# Altium schematic symbol library iv_connectors.SchLib: 193 symbols
Pins are listed as number, name and electrical type; pins without a type are passive.

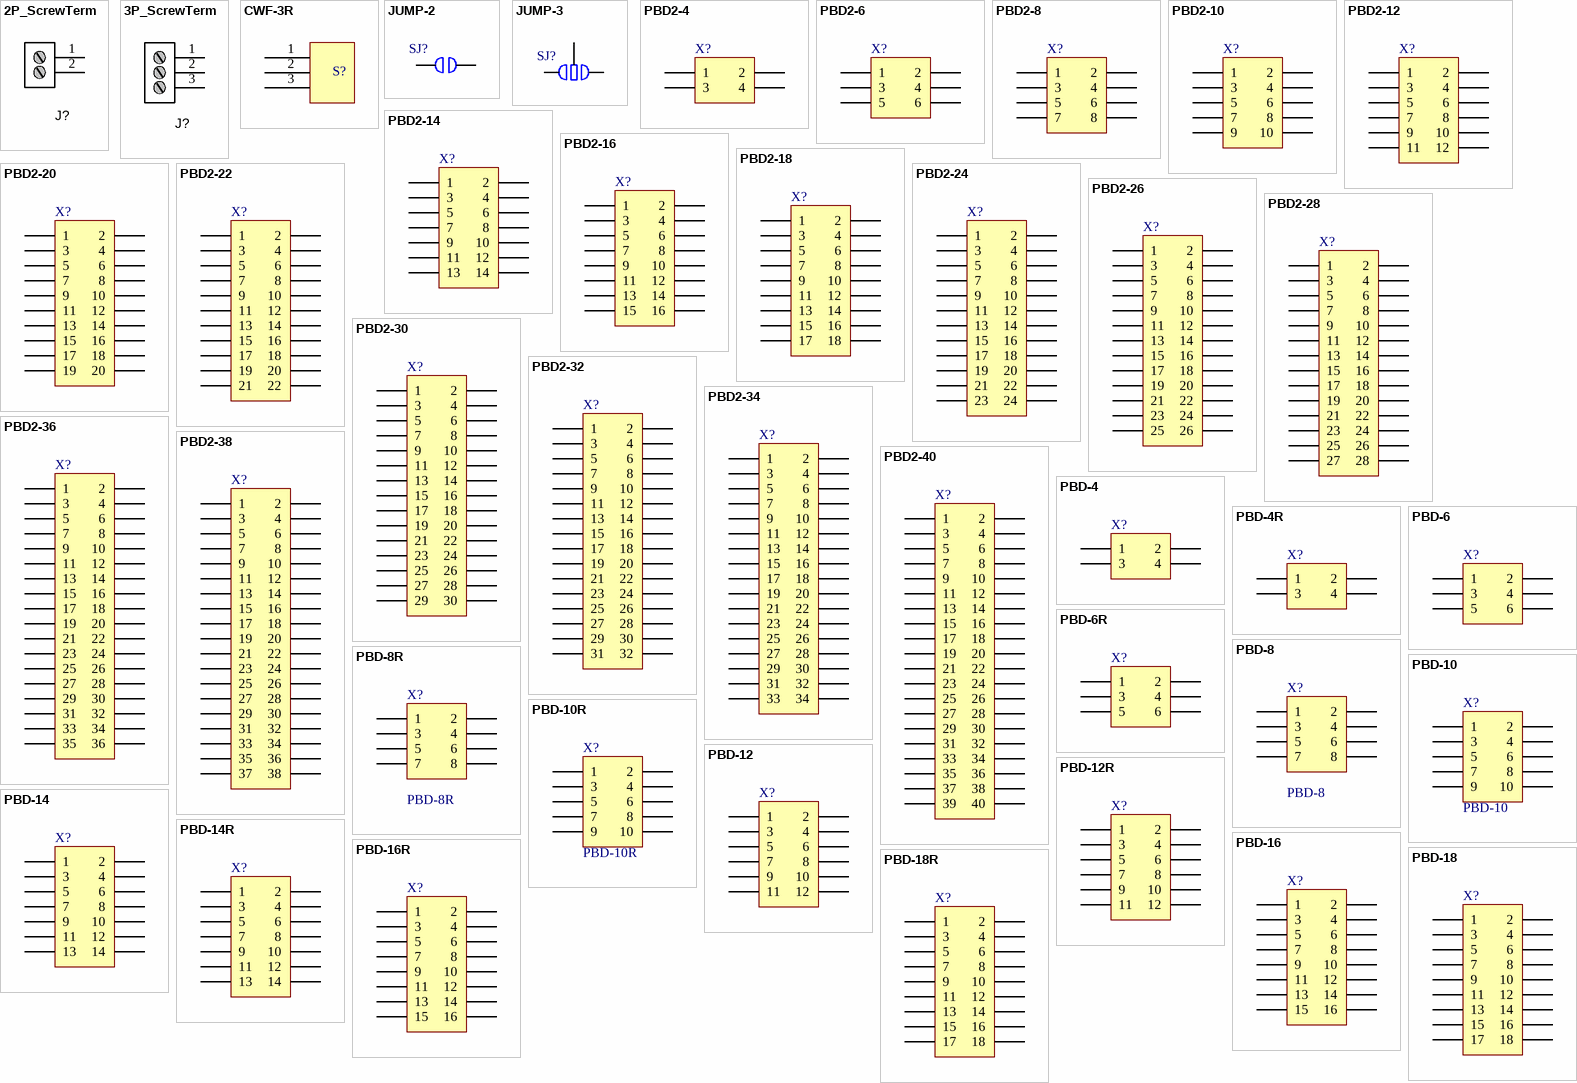
[diagram p0: symbols 2P_ScrewTerm to PBD-18R]

## 2P_ScrewTerm
designator J?, comment Stackable ScrewTerm  (value not drawn)
Terminal Block Screw Type THT 2-Position
footprint 2P_PCB_ScrewTerm_90S_3.81MM (TERM BLOCK 2POS SIDE ENT STACKABLE 3.81MM)
footprint 2P_PCB_ScrewTerm_90S_2.54MM (TERM BLOCK 2POS SIDE ENT STACKABLE 2.54)
footprint 2P_PCB_ScrewTerm_90S_5.00 (TERM BLOCK 2POS SIDE ENT STACKABLE 5.00MM)
footprint 2P_PCB_ScrewTerm_301_5.0MM
footprint 2P_PCB_ScrewTerm_DG128_5.0MM
pins: 1, 2

## 3P_ScrewTerm
designator J?, comment Stackable ScrewTerm  (value not drawn)
Terminal Block Screw Type THT 3-Position
footprint 3P_PCB_ScrewTerm_DG340_3.81MM (TERM BLOCK 3POS SIDE ENT STACKABLE 3.81MM)
footprint 3P_PCB_ScrewTerm_301_5.0MM
footprint 3P_PCB_ScrewTerm_DG128_5.0MM
pins: 1, 2, 3

## CWF-3R
designator S?, comment 2.5mm_3pin  (value not drawn)
footprint CWF-3R
pins: 1, 2, 3

## JUMP-2
designator SJ?, comment 2 way jumper  (value not drawn)  (no BOM)
footprint Jump1 (SMT Battery jumper pads)
pins: 1, 2

## JUMP-3
designator SJ?, comment 3 way jumper  (value not drawn)  (no BOM)
footprint Jump_3Way (SMT Battery jumper pads)
pins: 1, 2, 3

## PBD2-4
designator X?  (value not drawn)
Header, 2-Pin, Dual row
footprint PBD-4-2 (Connector; Header; 2x2 Position)
footprint PXD-4-2 (Connector; Header; 2x2 Position)
pins: 1, 2, 3, 4

## PBD2-6
designator X?  (value not drawn)
Header, 3-Pin, Dual row
footprint PBD-6-2 (Connector; Header; 3x2 Position)
footprint PXD-6-2 (Connector; Header; 3x2 Position)
pins: 1, 2, 3, 4, 5, 6

## PBD2-8
designator X?  (value not drawn)
Header, 4-Pin, Dual row
footprint PBD-8-2 (Connector; Header; 4x2 Position)
footprint PXD-8-2 (Connector; Header; 4x2 Position)
pins: 1, 2, 3, 4, 5, 6, 7, 8

## PBD2-10
designator X?  (value not drawn)
Header, 5-Pin, Dual row
footprint PBD-10-2 (Connector; Header; 5x2 Position)
footprint PXD-10-2 (Connector; Header; 5x2 Position)
pins: 1, 2, 3, 4, 5, 6, 7, 8, 9, 10

## PBD2-12
designator X?  (value not drawn)
Header, 6-Pin, Dual row
footprint PBD-12-2 (Connector; Header; 6x2 Position)
footprint PXD-12-2 (Connector; Header; 6x2 Position)
pins: 1, 2, 3, 4, 5, 6, 7, 8, 9, 10, 11, 12

## PBD2-14
designator X?  (value not drawn)
Header, 7-Pin, Dual row
footprint PBD-14-2 (Connector; Header; 7x2 Position)
footprint PXD-14-2 (Connector; Header; 7x2 Position)
pins: 1, 2, 3, 4, 5, 6, 7, 8, 9, 10, 11, 12, 13, 14

## PBD2-16
designator X?  (value not drawn)
Header, 8-Pin, Dual row
footprint PBD-16-2 (Connector; Header; 8x2 Position)
footprint PXD-16-2 (Connector; Header; 8x2 Position)
pins: 1, 2, 3, 4, 5, 6, 7, 8, 9, 10, 11, 12, 13, 14, 15, 16

## PBD2-18
designator X?  (value not drawn)
Header, 9-Pin, Dual row
footprint PBD-18-2 (Connector; Header; 9x2 Position)
footprint PXD-18-2 (Connector; Header; 9x2 Position)
pins: 1, 2, 3, 4, 5, 6, 7, 8, 9, 10, 11, 12, 13, 14, 15, 16, 17, 18

## PBD2-20
designator X?  (value not drawn)
Header, 10-Pin, Dual row
footprint PBD-20-2 (Connector; Header; 10x2 Position)
footprint PXD-20-2 (Connector; Header; 10x2 Position)
pins: 1, 2, 3, 4, 5, 6, 7, 8, 9, 10, 11, 12, 13, 14, 15, 16, 17, 18, 19, 20

## PBD2-22
designator X?  (value not drawn)
Header, 11-Pin, Dual row
footprint PBD-22-2 (Connector; Header; 11x2 Position)
footprint PXD-22-2 (Connector; Header; 11x2 Position)
pins: 1, 2, 3, 4, 5, 6, 7, 8, 9, 10, 11, 12, 13, 14, 15, 16, 17, 18, 19, 20, 21, 22

## PBD2-24
designator X?  (value not drawn)
Header, 12-Pin, Dual row
footprint pbd-24-2 (Connector; Header; 12x2 Position)
footprint pxd-24-2 (Connector; Header; 12x2 Position)
pins: 1, 2, 3, 4, 5, 6, 7, 8, 9, 10, 11, 12, 13, 14, 15, 16, 17, 18, 19, 20, 21, 22, 23, 24

## PBD2-26
designator X?  (value not drawn)
Header, 13-Pin, Dual row
footprint PBD-26-2 (Connector; Header; 13x2 Position)
footprint PXD-26-2 (Connector; Header; 13x2 Position)
pins: 1, 2, 3, 4, 5, 6, 7, 8, 9, 10, 11, 12, 13, 14, 15, 16, 17, 18, 19, 20, 21, 22, 23, 24, 25, 26

## PBD2-28
designator X?  (value not drawn)
Header, 14-Pin, Dual row
footprint PBD-28-2 (Connector; Header; 14x2 Position)
footprint PXD-28-2 (Connector; Header; 14x2 Position)
pins: 1, 2, 3, 4, 5, 6, 7, 8, 9, 10, 11, 12, 13, 14, 15, 16, 17, 18, 19, 20, 21, 22, 23, 24, 25, 26, 27, 28

## PBD2-30
designator X?  (value not drawn)
Header, 15-Pin, Dual row
footprint PBD-30-2 (Connector; Header; 15x2 Position)
footprint PXD-30-2 (Connector; Header; 15x2 Position)
pins: 1, 2, 3, 4, 5, 6, 7, 8, 9, 10, 11, 12, 13, 14, 15, 16, 17, 18, 19, 20, 21, 22, 23, 24, 25, 26, 27, 28, 29, 30

## PBD2-32
designator X?  (value not drawn)
Header, 16-Pin, Dual row
footprint PBD-32-2 (Connector; Header; 16x2 Position)
footprint PXD-32-2 (Connector; Header; 16x2 Position)
pins: 1, 2, 3, 4, 5, 6, 7, 8, 9, 10, 11, 12, 13, 14, 15, 16, 17, 18, 19, 20, 21, 22, 23, 24, 25, 26, 27, 28, 29, 30, 31, 32

## PBD2-34
designator X?  (value not drawn)
Header, 17-Pin, Dual row
footprint PBD-34-2 (Connector; Header; 17x2 Position)
footprint PXD-34-2 (Connector; Header; 17x2 Position)
pins: 1, 2, 3, 4, 5, 6, 7, 8, 9, 10, 11, 12, 13, 14, 15, 16, 17, 18, 19, 20, 21, 22, 23, 24, 25, 26, 27, 28, 29, 30, 31, 32, 33, 34

## PBD2-36
designator X?  (value not drawn)
Header, 18-Pin, Dual row
footprint PBD-36-2 (Connector; Header; 18x2 Position)
footprint PXD-36-2 (Connector; Header; 18x2 Position)
pins: 1, 2, 3, 4, 5, 6, 7, 8, 9, 10, 11, 12, 13, 14, 15, 16, 17, 18, 19, 20, 21, 22, 23, 24, 25, 26, 27, 28, 29, 30, 31, 32, 33, 34, 35, 36

## PBD2-38
designator X?  (value not drawn)
Header, 19-Pin, Dual row
footprint PBD-38-2 (Connector; Header; 19x2 Position)
footprint PXD-38-2 (Connector; Header; 19x2 Position)
pins: 1, 2, 3, 4, 5, 6, 7, 8, 9, 10, 11, 12, 13, 14, 15, 16, 17, 18, 19, 20, 21, 22, 23, 24, 25, 26, 27, 28, 29, 30, 31, 32, 33, 34, 35, 36, 37, 38

## PBD2-40
designator X?  (value not drawn)
Header, 20-Pin, Dual row
footprint PBD-40-2 (Connector; Header; 20x2 Position)
footprint PXD-40-2 (Connector; Header; 20x2 Position)
pins: 1, 2, 3, 4, 5, 6, 7, 8, 9, 10, 11, 12, 13, 14, 15, 16, 17, 18, 19, 20, 21, 22, 23, 24, 25, 26, 27, 28, 29, 30, 31, 32, 33, 34, 35, 36, 37, 38, 39, 40

## PBD-4
designator X?  (value not drawn)
Header, 2-Pin, Dual row
footprint PBD-4-3D (Connector; Header; 2x2 Position)
footprint PXD-4 (Connector; Header; 2x2 Position)
pins: 1, 2, 3, 4

## PBD-4R
designator X?  (value not drawn)
Header, 2-Pin, Dual row
footprint PBD-4RR (Connector; Header; 2x2 Position)
footprint PBD-4RL (Connector; Header; 2x2 Position)
pins: 1, 2, 3, 4

## PBD-6
designator X?  (value not drawn)
Header, 3-Pin, Dual row
footprint PBD-6-3D (Connector; Header; 3x2 Position)
footprint PXD-6 (Connector; Header; 3x2 Position)
pins: 1, 2, 3, 4, 5, 6

## PBD-6R
designator X?  (value not drawn)
Header, 3-Pin, Dual row
footprint PBD-6RR (Connector; Header; 3x2 Position)
footprint PBD-6RL (Connector; Header; 3x2 Position)
pins: 1, 2, 3, 4, 5, 6

## PBD-8
designator X?
Header, 4-Pin, Dual row
footprint PBD-8-3D (Connector; Header; 4x2 Position)
footprint PXD-8 (Connector; Header; 4x2 Position)
pins: 1, 2, 3, 4, 5, 6, 7, 8

## PBD-8R
designator X?
Header, 4-Pin, Dual row
footprint PBD-8RR (Connector; Header; 4x2 Position)
footprint PBD-8RL (Connector; Header; 4x2 Position)
pins: 1, 2, 3, 4, 5, 6, 7, 8

## PBD-10
designator X?
Header, 5-Pin, Dual row
footprint PBD-10-3D (Connector; Header; 5x2 Position)
footprint PXD-10 (Connector; Header; 5x2 Position)
pins: 1, 2, 3, 4, 5, 6, 7, 8, 9, 10

## PBD-10R
designator X?
Header, 5-Pin, Dual row
footprint PBD-10RR (Connector; Header; 5x2 Position)
footprint PBD-10RL (Connector; Header; 5x2 Position)
pins: 1, 2, 3, 4, 5, 6, 7, 8, 9, 10

## PBD-12
designator X?  (value not drawn)
Header, 6-Pin, Dual row
footprint PBD-12-3D (Connector; Header; 6x2 Position)
footprint PXD-12 (Connector; Header; 6x2 Position)
pins: 1, 2, 3, 4, 5, 6, 7, 8, 9, 10, 11, 12

## PBD-12R
designator X?  (value not drawn)
Header, 6-Pin, Dual row
footprint PBD-12RR (Connector; Header; 6x2 Position)
footprint PBD-12RL (Connector; Header; 6x2 Position)
pins: 1, 2, 3, 4, 5, 6, 7, 8, 9, 10, 11, 12

## PBD-14
designator X?  (value not drawn)
Header, 7-Pin, Dual row
footprint PBD-14-3D (Connector; Header; 7x2 Position)
footprint PXD-14 (Connector; Header; 7x2 Position)
pins: 1, 2, 3, 4, 5, 6, 7, 8, 9, 10, 11, 12, 13, 14

## PBD-14R
designator X?  (value not drawn)
Header, 7-Pin, Dual row
footprint PBD-14RR (Connector; Header; 7x2 Position)
footprint PBD-14RL (Connector; Header; 7x2 Position)
pins: 1, 2, 3, 4, 5, 6, 7, 8, 9, 10, 11, 12, 13, 14

## PBD-16
designator X?  (value not drawn)
Header, 8-Pin, Dual row
footprint PBD-16-3D (Connector; Header; 8x2 Position)
footprint PXD-16 (Connector; Header; 8x2 Position)
pins: 1, 2, 3, 4, 5, 6, 7, 8, 9, 10, 11, 12, 13, 14, 15, 16

## PBD-16R
designator X?  (value not drawn)
Header, 8-Pin, Dual row
footprint PBD-16RR (Connector; Header; 8x2 Position)
footprint PBD-16RL (Connector; Header; 8x2 Position)
pins: 1, 2, 3, 4, 5, 6, 7, 8, 9, 10, 11, 12, 13, 14, 15, 16

## PBD-18
designator X?  (value not drawn)
Header, 9-Pin, Dual row
footprint PBD-18-3D (Connector; Header; 9x2 Position)
footprint PXD-18 (Connector; Header; 9x2 Position)
pins: 1, 2, 3, 4, 5, 6, 7, 8, 9, 10, 11, 12, 13, 14, 15, 16, 17, 18

## PBD-18R
designator X?  (value not drawn)
Header, 9-Pin, Dual row
footprint PBD-18RR (Connector; Header; 9x2 Position)
footprint PBD-18RL (Connector; Header; 9x2 Position)
pins: 1, 2, 3, 4, 5, 6, 7, 8, 9, 10, 11, 12, 13, 14, 15, 16, 17, 18

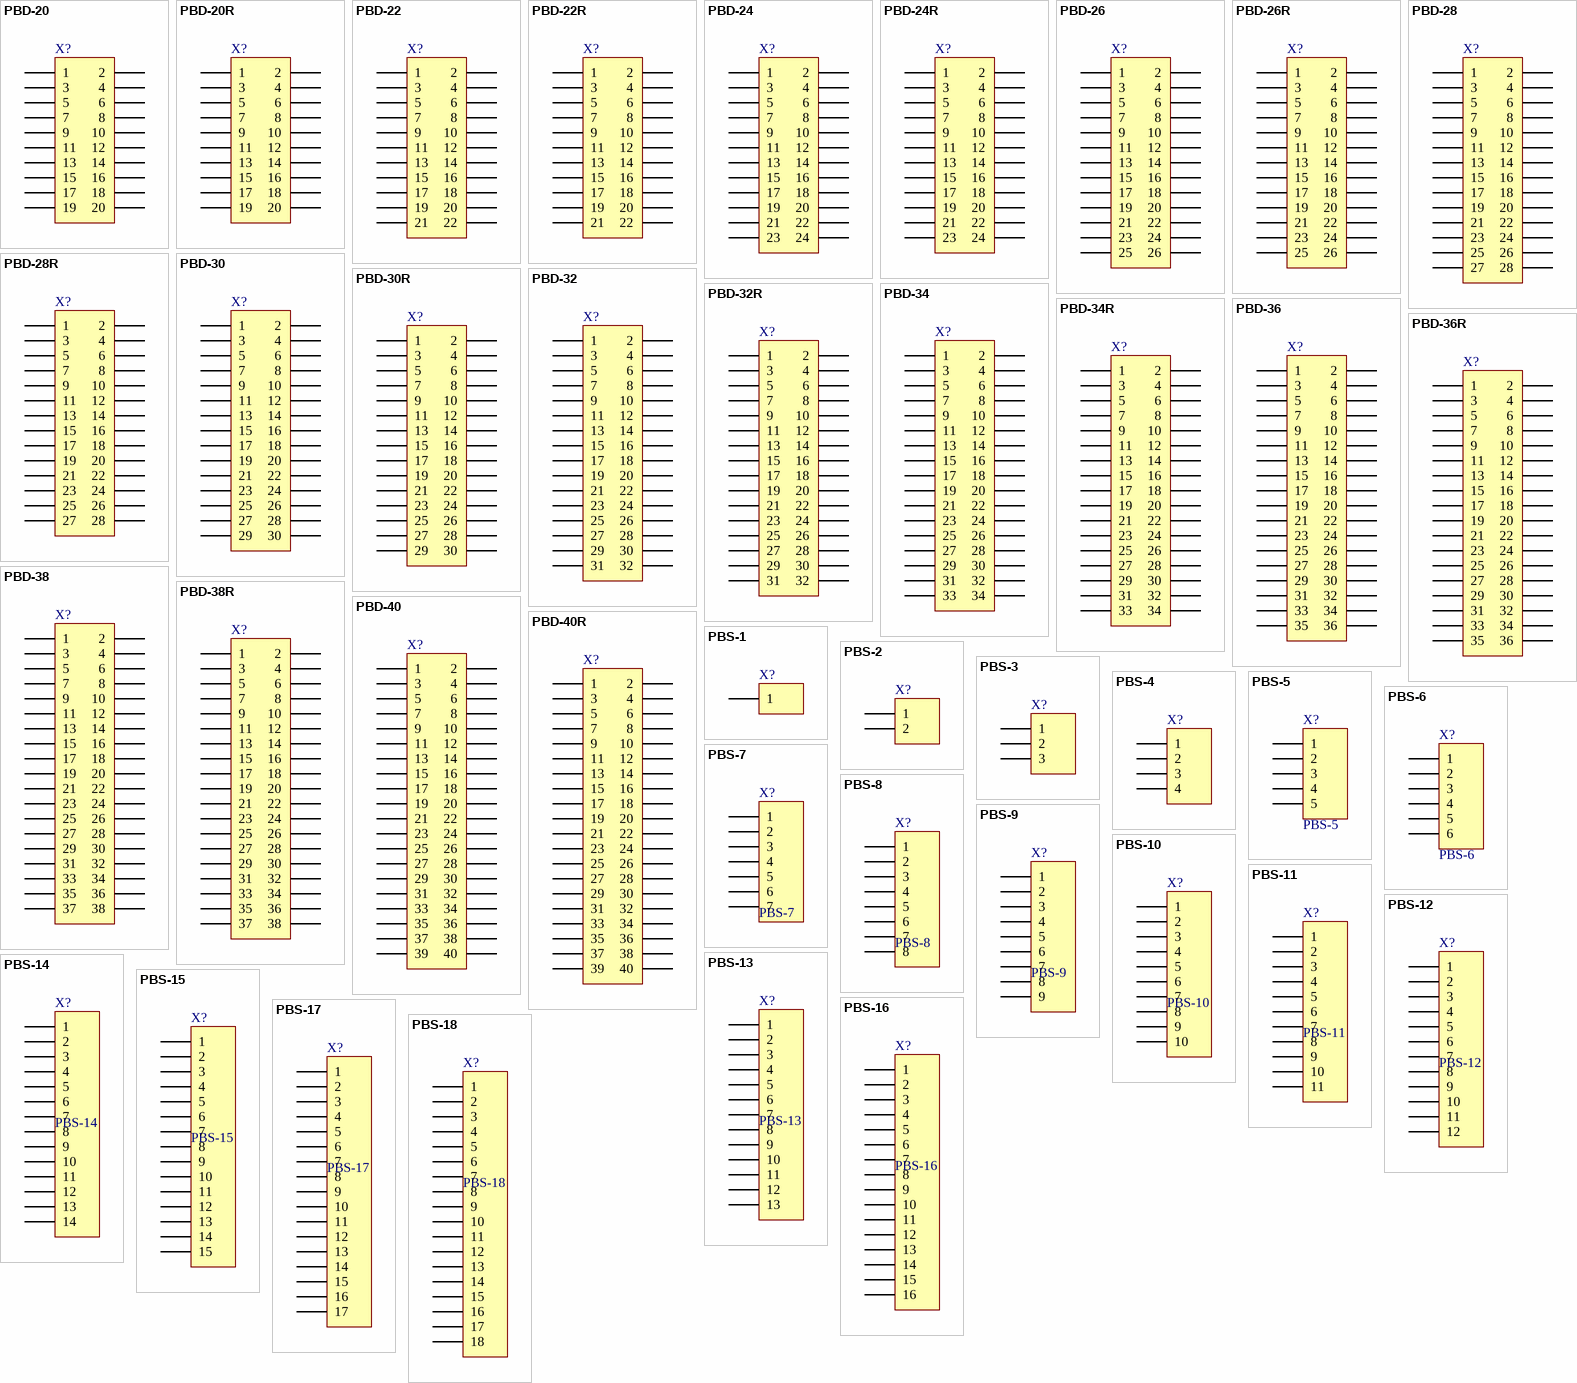
[diagram p1: symbols PBD-20 to PBS-18]

## PBD-20
designator X?  (value not drawn)
Header, 10-Pin, Dual row
footprint PBD-20-3D (Connector; Header; 10x2 Position)
footprint PXD-20 (Connector; Header; 10x2 Position)
pins: 1, 2, 3, 4, 5, 6, 7, 8, 9, 10, 11, 12, 13, 14, 15, 16, 17, 18, 19, 20

## PBD-20R
designator X?  (value not drawn)
Header, 10-Pin, Dual row
footprint PBD-20RR (Connector; Header; 10x2 Position)
footprint PBD-20RL (Connector; Header; 10x2 Position)
pins: 1, 2, 3, 4, 5, 6, 7, 8, 9, 10, 11, 12, 13, 14, 15, 16, 17, 18, 19, 20

## PBD-22
designator X?  (value not drawn)
Header, 11-Pin, Dual row
footprint PBD-22-3D (Connector; Header; 11x2 Position)
footprint PXD-22 (Connector; Header; 11x2 Position)
pins: 1, 2, 3, 4, 5, 6, 7, 8, 9, 10, 11, 12, 13, 14, 15, 16, 17, 18, 19, 20, 21, 22

## PBD-22R
designator X?  (value not drawn)
Header, 11-Pin, Dual row
footprint PBD-22RR (Connector; Header; 11x2 Position)
footprint PBD-22RL (Connector; Header; 11x2 Position)
pins: 1, 2, 3, 4, 5, 6, 7, 8, 9, 10, 11, 12, 13, 14, 15, 16, 17, 18, 19, 20, 21, 22

## PBD-24
designator X?  (value not drawn)
Header, 12-Pin, Dual row
footprint PBD-24-3D (Connector; Header; 12x2 Position)
footprint PXD-24 (Connector; Header; 12x2 Position)
pins: 1, 2, 3, 4, 5, 6, 7, 8, 9, 10, 11, 12, 13, 14, 15, 16, 17, 18, 19, 20, 21, 22, 23, 24

## PBD-24R
designator X?  (value not drawn)
Header, 12-Pin, Dual row
footprint PBD-24RR (Connector; Header; 12x2 Position)
footprint PBD-24RL (Connector; Header; 12x2 Position)
pins: 1, 2, 3, 4, 5, 6, 7, 8, 9, 10, 11, 12, 13, 14, 15, 16, 17, 18, 19, 20, 21, 22, 23, 24

## PBD-26
designator X?  (value not drawn)
Header, 13-Pin, Dual row
footprint PBD-26-3D (Connector; Header; 13x2 Position)
footprint PXD-26 (Connector; Header; 13x2 Position)
pins: 1, 2, 3, 4, 5, 6, 7, 8, 9, 10, 11, 12, 13, 14, 15, 16, 17, 18, 19, 20, 21, 22, 23, 24, 25, 26

## PBD-26R
designator X?  (value not drawn)
Header, 13-Pin, Dual row
footprint PBD-26RR (Connector; Header; 13x2 Position)
footprint PBD-26RL (Connector; Header; 13x2 Position)
pins: 1, 2, 3, 4, 5, 6, 7, 8, 9, 10, 11, 12, 13, 14, 15, 16, 17, 18, 19, 20, 21, 22, 23, 24, 25, 26

## PBD-28
designator X?  (value not drawn)
Header, 14-Pin, Dual row
footprint PBD-28-3D (Connector; Header; 14x2 Position)
footprint PXD-28 (Connector; Header; 14x2 Position)
pins: 1, 2, 3, 4, 5, 6, 7, 8, 9, 10, 11, 12, 13, 14, 15, 16, 17, 18, 19, 20, 21, 22, 23, 24, 25, 26, 27, 28

## PBD-28R
designator X?  (value not drawn)
Header, 14-Pin, Dual row
footprint PBD-28RR (Connector; Header; 14x2 Position)
footprint PBD-28RL (Connector; Header; 14x2 Position)
pins: 1, 2, 3, 4, 5, 6, 7, 8, 9, 10, 11, 12, 13, 14, 15, 16, 17, 18, 19, 20, 21, 22, 23, 24, 25, 26, 27, 28

## PBD-30
designator X?  (value not drawn)
Header, 15-Pin, Dual row
footprint PBD-30-3D (Connector; Header; 15x2 Position)
footprint PXD-30 (Connector; Header; 15x2 Position)
pins: 1, 2, 3, 4, 5, 6, 7, 8, 9, 10, 11, 12, 13, 14, 15, 16, 17, 18, 19, 20, 21, 22, 23, 24, 25, 26, 27, 28, 29, 30

## PBD-30R
designator X?  (value not drawn)
Header, 15-Pin, Dual row
footprint PBD-30RR (Connector; Header; 15x2 Position)
footprint PBD-30RL (Connector; Header; 15x2 Position)
pins: 1, 2, 3, 4, 5, 6, 7, 8, 9, 10, 11, 12, 13, 14, 15, 16, 17, 18, 19, 20, 21, 22, 23, 24, 25, 26, 27, 28, 29, 30

## PBD-32
designator X?  (value not drawn)
Header, 16-Pin, Dual row
footprint PBD-32-3D (Connector; Header; 16x2 Position)
footprint PXD-32 (Connector; Header; 16x2 Position)
pins: 1, 2, 3, 4, 5, 6, 7, 8, 9, 10, 11, 12, 13, 14, 15, 16, 17, 18, 19, 20, 21, 22, 23, 24, 25, 26, 27, 28, 29, 30, 31, 32

## PBD-32R
designator X?  (value not drawn)
Header, 16-Pin, Dual row
footprint PBD-32RR (Connector; Header; 16x2 Position)
footprint PBD-32RL (Connector; Header; 16x2 Position)
pins: 1, 2, 3, 4, 5, 6, 7, 8, 9, 10, 11, 12, 13, 14, 15, 16, 17, 18, 19, 20, 21, 22, 23, 24, 25, 26, 27, 28, 29, 30, 31, 32

## PBD-34
designator X?  (value not drawn)
Header, 17-Pin, Dual row
footprint PBD-34-3D (Connector; Header; 17x2 Position)
footprint PXD-34 (Connector; Header; 17x2 Position)
pins: 1, 2, 3, 4, 5, 6, 7, 8, 9, 10, 11, 12, 13, 14, 15, 16, 17, 18, 19, 20, 21, 22, 23, 24, 25, 26, 27, 28, 29, 30, 31, 32, 33, 34

## PBD-34R
designator X?  (value not drawn)
Header, 17-Pin, Dual row
footprint PBD-34RR (Connector; Header; 17x2 Position)
footprint PBD-34RL (Connector; Header; 17x2 Position)
pins: 1, 2, 3, 4, 5, 6, 7, 8, 9, 10, 11, 12, 13, 14, 15, 16, 17, 18, 19, 20, 21, 22, 23, 24, 25, 26, 27, 28, 29, 30, 31, 32, 33, 34

## PBD-36
designator X?  (value not drawn)
Header, 18-Pin, Dual row
footprint PBD-36-3D (Connector; Header; 18x2 Position)
footprint PXD-36 (Connector; Header; 18x2 Position)
pins: 1, 2, 3, 4, 5, 6, 7, 8, 9, 10, 11, 12, 13, 14, 15, 16, 17, 18, 19, 20, 21, 22, 23, 24, 25, 26, 27, 28, 29, 30, 31, 32, 33, 34, 35, 36

## PBD-36R
designator X?  (value not drawn)
Header, 18-Pin, Dual row
footprint PBD-36RR (Connector; Header; 18x2 Position)
footprint PBD-36RL (Connector; Header; 18x2 Position)
pins: 1, 2, 3, 4, 5, 6, 7, 8, 9, 10, 11, 12, 13, 14, 15, 16, 17, 18, 19, 20, 21, 22, 23, 24, 25, 26, 27, 28, 29, 30, 31, 32, 33, 34, 35, 36

## PBD-38
designator X?  (value not drawn)
Header, 19-Pin, Dual row
footprint PBD-38-3D (Connector; Header; 19x2 Position)
footprint PXD-38 (Connector; Header; 19x2 Position)
pins: 1, 2, 3, 4, 5, 6, 7, 8, 9, 10, 11, 12, 13, 14, 15, 16, 17, 18, 19, 20, 21, 22, 23, 24, 25, 26, 27, 28, 29, 30, 31, 32, 33, 34, 35, 36, 37, 38

## PBD-38R
designator X?  (value not drawn)
Header, 19-Pin, Dual row
footprint PBD-38RR (Connector; Header; 19x2 Position)
footprint PBD-38RL (Connector; Header; 19x2 Position)
pins: 1, 2, 3, 4, 5, 6, 7, 8, 9, 10, 11, 12, 13, 14, 15, 16, 17, 18, 19, 20, 21, 22, 23, 24, 25, 26, 27, 28, 29, 30, 31, 32, 33, 34, 35, 36, 37, 38

## PBD-40
designator X?  (value not drawn)
Header, 20-Pin, Dual row
footprint PBD-40-3D (Connector; Header; 20x2 Position)
footprint PXD-40 (Connector; Header; 20x2 Position)
pins: 1, 2, 3, 4, 5, 6, 7, 8, 9, 10, 11, 12, 13, 14, 15, 16, 17, 18, 19, 20, 21, 22, 23, 24, 25, 26, 27, 28, 29, 30, 31, 32, 33, 34, 35, 36, 37, 38, 39, 40

## PBD-40R
designator X?  (value not drawn)
Header, 20-Pin, Dual row
footprint PBD-40RR (Connector; Header; 20x2 Position)
footprint PBD-40RL (Connector; Header; 20x2 Position)
pins: 1, 2, 3, 4, 5, 6, 7, 8, 9, 10, 11, 12, 13, 14, 15, 16, 17, 18, 19, 20, 21, 22, 23, 24, 25, 26, 27, 28, 29, 30, 31, 32, 33, 34, 35, 36, 37, 38, 39, 40

## PBS-1
designator X?  (value not drawn)
Header, 1-Pin
footprint PXS-1 (Connector; Header; 1 Position)
footprint PBS-1-3D (Connector; Header; 1 Position)
pins: 1

## PBS-2
designator X?  (value not drawn)
Header, 2-Pin
footprint PXS-2 (Connector; Header; 2 Position)
footprint PBS-2-3D (Connector; Header; 2 Position)
pins: 1, 2

## PBS-3
designator X?  (value not drawn)
Header, 3-Pin
footprint PBS-3-3D (Connector; Header; 3 Position)
footprint PXS-3 (Connector; Header; 3 Position)
pins: 1, 2, 3

## PBS-4
designator X?  (value not drawn)
Header, 4-Pin
footprint PBS-4-3D (Connector; Header; 4 Position)
footprint PXS-4 (Connector; Header; 4 Position)
pins: 1, 2, 3, 4

## PBS-5
designator X?
Header, 5-Pin
footprint PXS-5 (Connector; Header; 5 Position)
footprint PBS-5-3D (Connector; Header; 5 Position)
pins: 1, 2, 3, 4, 5

## PBS-6
designator X?
Header, 6-Pin
footprint PXS-6 (Connector; Header; 6 Position)
footprint PBS-6-3D (Connector; Header; 6 Position)
pins: 1, 2, 3, 4, 5, 6

## PBS-7
designator X?
Header, 7-Pin
footprint PXS-7 (Connector; Header; 7 Position)
footprint PBS-7-3D (Connector; Header; 7 Position)
pins: 1, 2, 3, 4, 5, 6, 7

## PBS-8
designator X?
Header, 8-Pin
footprint PXS-8 (Connector; Header; 8 Position)
footprint PBS-8-3D (Connector; Header; 8 Position)
pins: 1, 2, 3, 4, 5, 6, 7, 8

## PBS-9
designator X?
Header, 9-Pin
footprint PXS-9 (Connector; Header; 9 Position)
footprint PBS-9-3D (Connector; Header; 9 Position)
pins: 1, 2, 3, 4, 5, 6, 7, 8, 9

## PBS-10
designator X?
Header, 10-Pin
footprint PXS-10 (Connector; Header; 10 Position)
footprint PBS-10-3D (Connector; Header; 10 Position)
pins: 1, 2, 3, 4, 5, 6, 7, 8, 9, 10

## PBS-11
designator X?
Header, 11-Pin
footprint PXS-11 (Connector; Header; 11 Position)
footprint PBS-11-3D (Connector; Header; 11 Position)
pins: 1, 2, 3, 4, 5, 6, 7, 8, 9, 10, 11

## PBS-12
designator X?
Header, 12-Pin
footprint PXS-12 (Connector; Header; 12 Position)
footprint PBS-12-3D (Connector; Header; 12 Position)
pins: 1, 2, 3, 4, 5, 6, 7, 8, 9, 10, 11, 12

## PBS-13
designator X?
Header, 13-Pin
footprint PXS-13 (Connector; Header; 13 Position)
footprint PBS-13-3D (Connector; Header; 13 Position)
pins: 1, 2, 3, 4, 5, 6, 7, 8, 9, 10, 11, 12, 13

## PBS-14
designator X?
Header, 14-Pin
footprint PXS-14 (Connector; Header; 14 Position)
footprint PBS-14-3D (Connector; Header; 14 Position)
pins: 1, 2, 3, 4, 5, 6, 7, 8, 9, 10, 11, 12, 13, 14

## PBS-15
designator X?
Header, 15-Pin
footprint PXS-15 (Connector; Header; 15 Position)
footprint PBS-15-3D (Connector; Header; 15 Position)
pins: 1, 2, 3, 4, 5, 6, 7, 8, 9, 10, 11, 12, 13, 14, 15

## PBS-16
designator X?
Header, 16-Pin
footprint PXS-16 (Connector; Header; 16 Position)
footprint PBS-16-3D (Connector; Header; 16 Position)
pins: 1, 2, 3, 4, 5, 6, 7, 8, 9, 10, 11, 12, 13, 14, 15, 16

## PBS-17
designator X?
Header, 17-Pin
footprint PXS-17 (Connector; Header; 17 Position)
footprint PBS-17-3D (Connector; Header; 17 Position)
pins: 1, 2, 3, 4, 5, 6, 7, 8, 9, 10, 11, 12, 13, 14, 15, 16, 17

## PBS-18
designator X?
Header, 18-Pin
footprint PXS-18 (Connector; Header; 18 Position)
footprint PBS-18-3D (Connector; Header; 18 Position)
pins: 1, 2, 3, 4, 5, 6, 7, 8, 9, 10, 11, 12, 13, 14, 15, 16, 17, 18

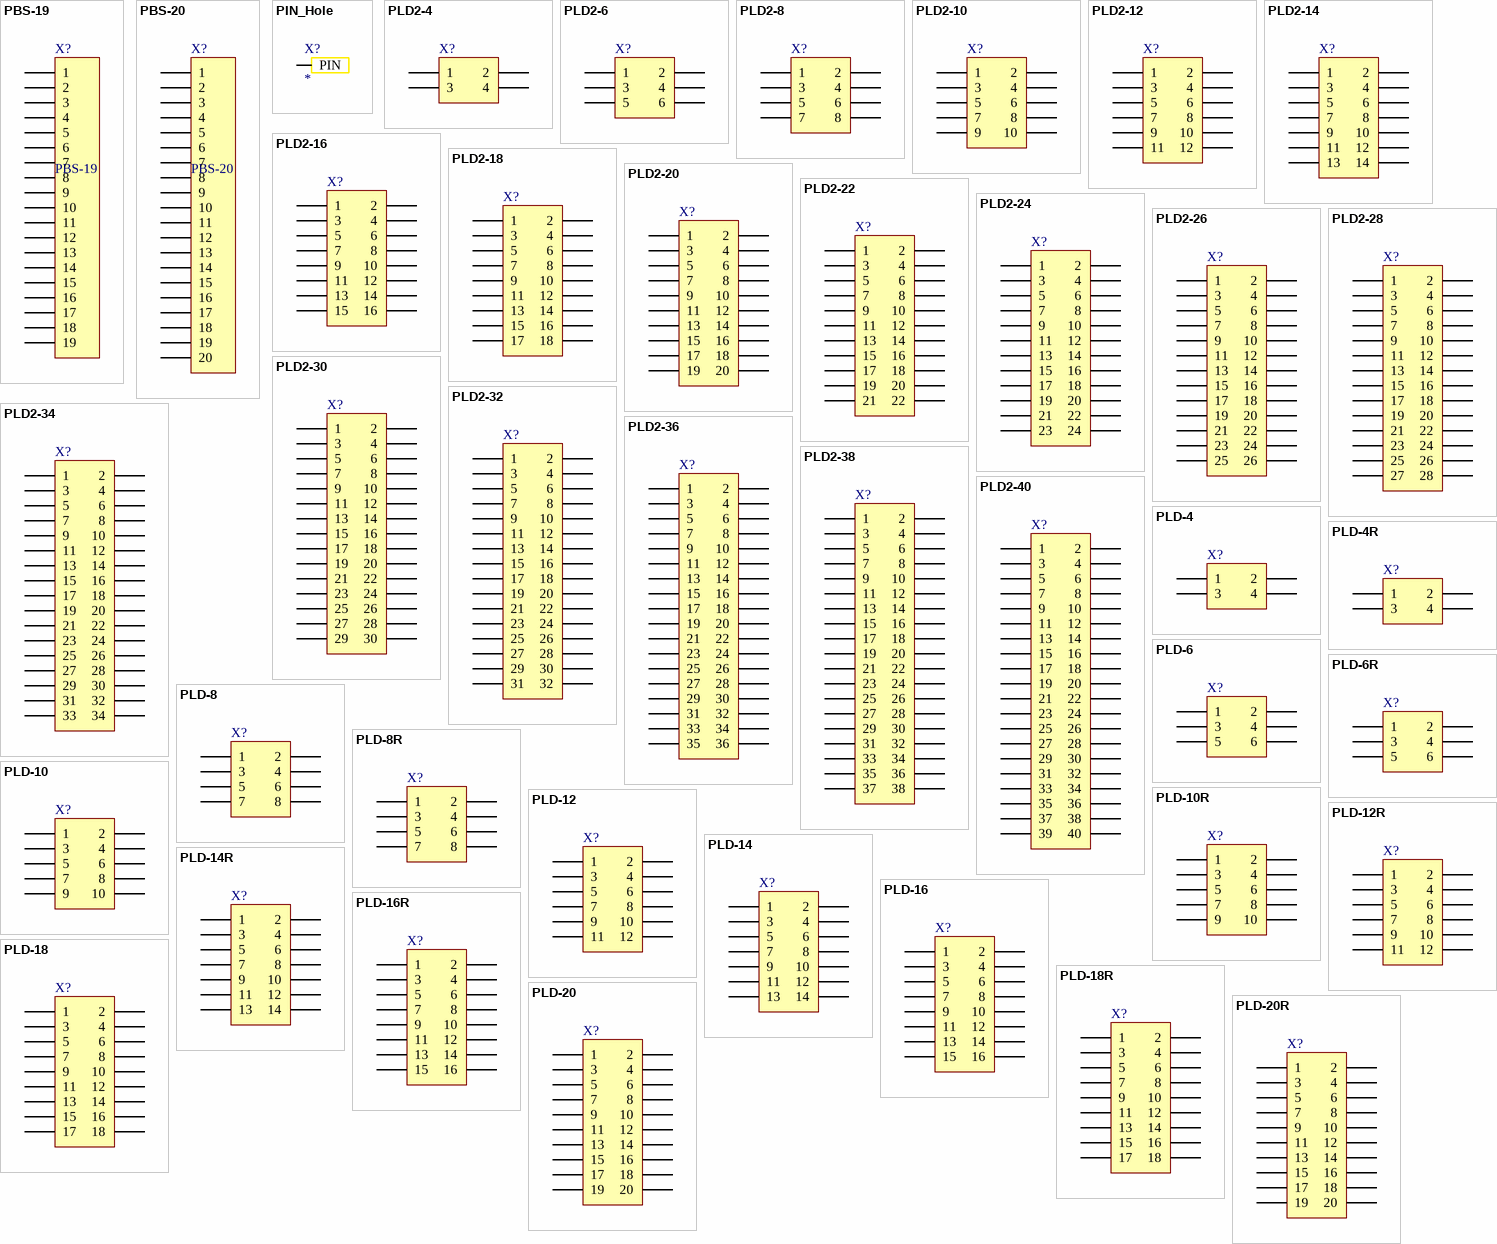
[diagram p2: symbols PBS-19 to PLD-20R]

## PBS-19
designator X?
Header, 19-Pin
footprint PXS-19 (Connector; Header; 19 Position)
footprint PBS-19-3D (Connector; Header; 19 Position)
pins: 1, 2, 3, 4, 5, 6, 7, 8, 9, 10, 11, 12, 13, 14, 15, 16, 17, 18, 19

## PBS-20
designator X?
Header, 20-Pin
footprint PXS-20 (Connector; Header; 20 Position)
footprint PBS-20-3D (Connector; Header; 20 Position)
pins: 1, 2, 3, 4, 5, 6, 7, 8, 9, 10, 11, 12, 13, 14, 15, 16, 17, 18, 19, 20

## PIN_Hole
designator X?
footprint PIN_0.9mm
footprint PIN_3mm
footprint PIN_1mm (Pin for PS1_module (FOX G20))
footprint PIN_3mm_1
footprint PIN_6mm
pins: 1 PIN

## PLD2-4
designator X?  (value not drawn)
Header, 2-Pin, Dual row
footprint PLD-4-2 (Connector; Header; 2x2 Position)
footprint PXD-4-2 (Connector; Header; 2x2 Position)
pins: 1, 2, 3, 4

## PLD2-6
designator X?  (value not drawn)
Header, 3-Pin, Dual row
footprint PLD-6-2 (Connector; Header; 3x2 Position)
footprint PXD-6-2 (Connector; Header; 3x2 Position)
pins: 1, 2, 3, 4, 5, 6

## PLD2-8
designator X?  (value not drawn)
Header, 4-Pin, Dual row
footprint PLD-8-2 (Connector; Header; 4x2 Position)
footprint PXD-8-2 (Connector; Header; 4x2 Position)
pins: 1, 2, 3, 4, 5, 6, 7, 8

## PLD2-10
designator X?  (value not drawn)
Header, 5-Pin, Dual row
footprint PLD-10-2 (Connector; Header; 5x2 Position)
footprint PXD-10-2 (Connector; Header; 5x2 Position)
pins: 1, 2, 3, 4, 5, 6, 7, 8, 9, 10

## PLD2-12
designator X?  (value not drawn)
Header, 6-Pin, Dual row
footprint PLD-12-2 (Connector; Header; 6x2 Position)
footprint PXD-12-2 (Connector; Header; 6x2 Position)
pins: 1, 2, 3, 4, 5, 6, 7, 8, 9, 10, 11, 12

## PLD2-14
designator X?  (value not drawn)
Header, 7-Pin, Dual row
footprint PLD-14-2 (Connector; Header; 7x2 Position)
footprint PXD-14-2 (Connector; Header; 7x2 Position)
pins: 1, 2, 3, 4, 5, 6, 7, 8, 9, 10, 11, 12, 13, 14

## PLD2-16
designator X?  (value not drawn)
Header, 8-Pin, Dual row
footprint PLD-16-2 (Connector; Header; 8x2 Position)
footprint PXD-16-2 (Connector; Header; 8x2 Position)
pins: 1, 2, 3, 4, 5, 6, 7, 8, 9, 10, 11, 12, 13, 14, 15, 16

## PLD2-18
designator X?  (value not drawn)
Header, 9-Pin, Dual row
footprint PLD-18-2 (Connector; Header; 9x2 Position)
footprint PXD-18-2 (Connector; Header; 9x2 Position)
pins: 1, 2, 3, 4, 5, 6, 7, 8, 9, 10, 11, 12, 13, 14, 15, 16, 17, 18

## PLD2-20
designator X?  (value not drawn)
Header, 10-Pin, Dual row
footprint PLD-20-2 (Connector; Header; 10x2 Position)
footprint PXD-20-2 (Connector; Header; 10x2 Position)
pins: 1, 2, 3, 4, 5, 6, 7, 8, 9, 10, 11, 12, 13, 14, 15, 16, 17, 18, 19, 20

## PLD2-22
designator X?  (value not drawn)
Header, 11-Pin, Dual row
footprint PLD-22-2 (Connector; Header; 11x2 Position)
footprint PXD-22-2 (Connector; Header; 11x2 Position)
pins: 1, 2, 3, 4, 5, 6, 7, 8, 9, 10, 11, 12, 13, 14, 15, 16, 17, 18, 19, 20, 21, 22

## PLD2-24
designator X?  (value not drawn)
Header, 12-Pin, Dual row
footprint pld-24-2 (Connector; Header; 12x2 Position)
footprint pxd-24-2 (Connector; Header; 12x2 Position)
pins: 1, 2, 3, 4, 5, 6, 7, 8, 9, 10, 11, 12, 13, 14, 15, 16, 17, 18, 19, 20, 21, 22, 23, 24

## PLD2-26
designator X?  (value not drawn)
Header, 13-Pin, Dual row
footprint PLD-26-2 (Connector; Header; 13x2 Position)
footprint PXD-26-2 (Connector; Header; 13x2 Position)
pins: 1, 2, 3, 4, 5, 6, 7, 8, 9, 10, 11, 12, 13, 14, 15, 16, 17, 18, 19, 20, 21, 22, 23, 24, 25, 26

## PLD2-28
designator X?  (value not drawn)
Header, 14-Pin, Dual row
footprint PLD-28-2 (Connector; Header; 14x2 Position)
footprint PXD-28-2 (Connector; Header; 14x2 Position)
pins: 1, 2, 3, 4, 5, 6, 7, 8, 9, 10, 11, 12, 13, 14, 15, 16, 17, 18, 19, 20, 21, 22, 23, 24, 25, 26, 27, 28

## PLD2-30
designator X?  (value not drawn)
Header, 15-Pin, Dual row
footprint PLD-30-2 (Connector; Header; 15x2 Position)
footprint PXD-30-2 (Connector; Header; 15x2 Position)
pins: 1, 2, 3, 4, 5, 6, 7, 8, 9, 10, 11, 12, 13, 14, 15, 16, 17, 18, 19, 20, 21, 22, 23, 24, 25, 26, 27, 28, 29, 30

## PLD2-32
designator X?  (value not drawn)
Header, 16-Pin, Dual row
footprint PLD-32-2 (Connector; Header; 16x2 Position)
footprint PXD-32-2 (Connector; Header; 16x2 Position)
pins: 1, 2, 3, 4, 5, 6, 7, 8, 9, 10, 11, 12, 13, 14, 15, 16, 17, 18, 19, 20, 21, 22, 23, 24, 25, 26, 27, 28, 29, 30, 31, 32

## PLD2-34
designator X?  (value not drawn)
Header, 17-Pin, Dual row
footprint PLD-34-2 (Connector; Header; 17x2 Position)
footprint PXD-34-2 (Connector; Header; 17x2 Position)
pins: 1, 2, 3, 4, 5, 6, 7, 8, 9, 10, 11, 12, 13, 14, 15, 16, 17, 18, 19, 20, 21, 22, 23, 24, 25, 26, 27, 28, 29, 30, 31, 32, 33, 34

## PLD2-36
designator X?  (value not drawn)
Header, 18-Pin, Dual row
footprint PLD-36-2 (Connector; Header; 18x2 Position)
footprint PXD-36-2 (Connector; Header; 18x2 Position)
pins: 1, 2, 3, 4, 5, 6, 7, 8, 9, 10, 11, 12, 13, 14, 15, 16, 17, 18, 19, 20, 21, 22, 23, 24, 25, 26, 27, 28, 29, 30, 31, 32, 33, 34, 35, 36

## PLD2-38
designator X?  (value not drawn)
Header, 19-Pin, Dual row
footprint PLD-38-2 (Connector; Header; 19x2 Position)
footprint PXD-38-2 (Connector; Header; 19x2 Position)
pins: 1, 2, 3, 4, 5, 6, 7, 8, 9, 10, 11, 12, 13, 14, 15, 16, 17, 18, 19, 20, 21, 22, 23, 24, 25, 26, 27, 28, 29, 30, 31, 32, 33, 34, 35, 36, 37, 38

## PLD2-40
designator X?  (value not drawn)
Header, 20-Pin, Dual row
footprint PLD-40-2 (Connector; Header; 20x2 Position)
footprint PXD-40-2 (Connector; Header; 20x2 Position)
pins: 1, 2, 3, 4, 5, 6, 7, 8, 9, 10, 11, 12, 13, 14, 15, 16, 17, 18, 19, 20, 21, 22, 23, 24, 25, 26, 27, 28, 29, 30, 31, 32, 33, 34, 35, 36, 37, 38, 39, 40

## PLD-4
designator X?  (value not drawn)
Header, 2-Pin, Dual row
footprint PLD-4-3D (Connector; Header; 2x2 Position)
footprint PXD-4 (Connector; Header; 2x2 Position)
pins: 1, 2, 3, 4

## PLD-4R
designator X?  (value not drawn)
Header, 2-Pin, Dual row
footprint PLD-4RR1 (Connector; Header; 2x2 Position)
footprint PLD-4RL1 (Connector; Header; 2x2 Position)
footprint PLD-4RR2 (Connector; Header; 2x2 Position)
footprint PLD-4RL2 (Connector; Header; 2x2 Position)
pins: 1, 2, 3, 4

## PLD-6
designator X?  (value not drawn)
Header, 3-Pin, Dual row
footprint PLD-6-3D (Connector; Header; 3x2 Position)
footprint PXD-6 (Connector; Header; 3x2 Position)
pins: 1, 2, 3, 4, 5, 6

## PLD-6R
designator X?  (value not drawn)
Header, 3-Pin, Dual row
footprint PLD-6RR1 (Connector; Header; 3x2 Position)
footprint PLD-6RL1 (Connector; Header; 3x2 Position)
footprint PLD-6RR2 (Connector; Header; 3x2 Position)
footprint PLD-6RL2 (Connector; Header; 3x2 Position)
pins: 1, 2, 3, 4, 5, 6

## PLD-8
designator X?  (value not drawn)
Header, 4-Pin, Dual row
footprint PLD-8-3D (Connector; Header; 4x2 Position)
footprint PXD-8 (Connector; Header; 4x2 Position)
pins: 1, 2, 3, 4, 5, 6, 7, 8

## PLD-8R
designator X?  (value not drawn)
Header, 4-Pin, Dual row
footprint PLD-8RR1 (Connector; Header; 4x2 Position)
footprint PLD-8RL1 (Connector; Header; 4x2 Position)
footprint PLD-8RR2 (Connector; Header; 4x2 Position)
footprint PLD-8RL2 (Connector; Header; 4x2 Position)
pins: 1, 2, 3, 4, 5, 6, 7, 8

## PLD-10
designator X?  (value not drawn)
Header, 5-Pin, Dual row
footprint PLD-10-3D (Connector; Header; 5x2 Position)
footprint PXD-10 (Connector; Header; 5x2 Position)
pins: 1, 2, 3, 4, 5, 6, 7, 8, 9, 10

## PLD-10R
designator X?  (value not drawn)
Header, 5-Pin, Dual row
footprint PLD-10RR1 (Connector; Header; 5x2 Position)
footprint PLD-10RL1 (Connector; Header; 5x2 Position)
footprint PLD-10RR2 (Connector; Header; 5x2 Position)
footprint PLD-10RL2 (Connector; Header; 5x2 Position)
pins: 1, 2, 3, 4, 5, 6, 7, 8, 9, 10

## PLD-12
designator X?  (value not drawn)
Header, 6-Pin, Dual row
footprint PLD-12-3D (Connector; Header; 6x2 Position)
footprint PXD-12 (Connector; Header; 6x2 Position)
pins: 1, 2, 3, 4, 5, 6, 7, 8, 9, 10, 11, 12

## PLD-12R
designator X?  (value not drawn)
Header, 6-Pin, Dual row
footprint PLD-12RR1 (Connector; Header; 6x2 Position)
footprint PLD-12RL1 (Connector; Header; 6x2 Position)
footprint PLD-12RR2 (Connector; Header; 6x2 Position)
footprint PLD-12RL2 (Connector; Header; 6x2 Position)
pins: 1, 2, 3, 4, 5, 6, 7, 8, 9, 10, 11, 12

## PLD-14
designator X?  (value not drawn)
Header, 7-Pin, Dual row
footprint PLD-14-3D (Connector; Header; 7x2 Position)
footprint PXD-14 (Connector; Header; 7x2 Position)
pins: 1, 2, 3, 4, 5, 6, 7, 8, 9, 10, 11, 12, 13, 14

## PLD-14R
designator X?  (value not drawn)
Header, 7-Pin, Dual row
footprint PLD-14RR1 (Connector; Header; 7x2 Position)
footprint PLD-14RL1 (Connector; Header; 7x2 Position)
footprint PLD-14RR2 (Connector; Header; 7x2 Position)
footprint PLD-14RL2 (Connector; Header; 7x2 Position)
pins: 1, 2, 3, 4, 5, 6, 7, 8, 9, 10, 11, 12, 13, 14

## PLD-16
designator X?  (value not drawn)
Header, 8-Pin, Dual row
footprint PLD-16-3D (Connector; Header; 8x2 Position)
footprint PXD-16 (Connector; Header; 8x2 Position)
pins: 1, 2, 3, 4, 5, 6, 7, 8, 9, 10, 11, 12, 13, 14, 15, 16

## PLD-16R
designator X?  (value not drawn)
Header, 8-Pin, Dual row
footprint PLD-16RR1 (Connector; Header; 8x2 Position)
footprint PLD-16RL1 (Connector; Header; 8x2 Position)
footprint PLD-16RR2 (Connector; Header; 8x2 Position)
footprint PLD-16RL2 (Connector; Header; 8x2 Position)
pins: 1, 2, 3, 4, 5, 6, 7, 8, 9, 10, 11, 12, 13, 14, 15, 16

## PLD-18
designator X?  (value not drawn)
Header, 9-Pin, Dual row
footprint PLD-18-3D (Connector; Header; 9x2 Position)
footprint PXD-18 (Connector; Header; 9x2 Position)
pins: 1, 2, 3, 4, 5, 6, 7, 8, 9, 10, 11, 12, 13, 14, 15, 16, 17, 18

## PLD-18R
designator X?  (value not drawn)
Header, 9-Pin, Dual row
footprint PLD-18RR1 (Connector; Header; 9x2 Position)
footprint PLD-18RL1 (Connector; Header; 9x2 Position)
footprint PLD-18RR2 (Connector; Header; 9x2 Position)
footprint PLD-18RL2 (Connector; Header; 9x2 Position)
pins: 1, 2, 3, 4, 5, 6, 7, 8, 9, 10, 11, 12, 13, 14, 15, 16, 17, 18

## PLD-20
designator X?  (value not drawn)
Header, 10-Pin, Dual row
footprint PLD-20-3D (Connector; Header; 10x2 Position)
footprint PXD-20 (Connector; Header; 10x2 Position)
pins: 1, 2, 3, 4, 5, 6, 7, 8, 9, 10, 11, 12, 13, 14, 15, 16, 17, 18, 19, 20

## PLD-20R
designator X?  (value not drawn)
Header, 10-Pin, Dual row
footprint PLD-20RR1 (Connector; Header; 10x2 Position)
footprint PLD-20RL1 (Connector; Header; 10x2 Position)
footprint PLD-20RR2 (Connector; Header; 10x2 Position)
footprint PLD-20RL2 (Connector; Header; 10x2 Position)
pins: 1, 2, 3, 4, 5, 6, 7, 8, 9, 10, 11, 12, 13, 14, 15, 16, 17, 18, 19, 20

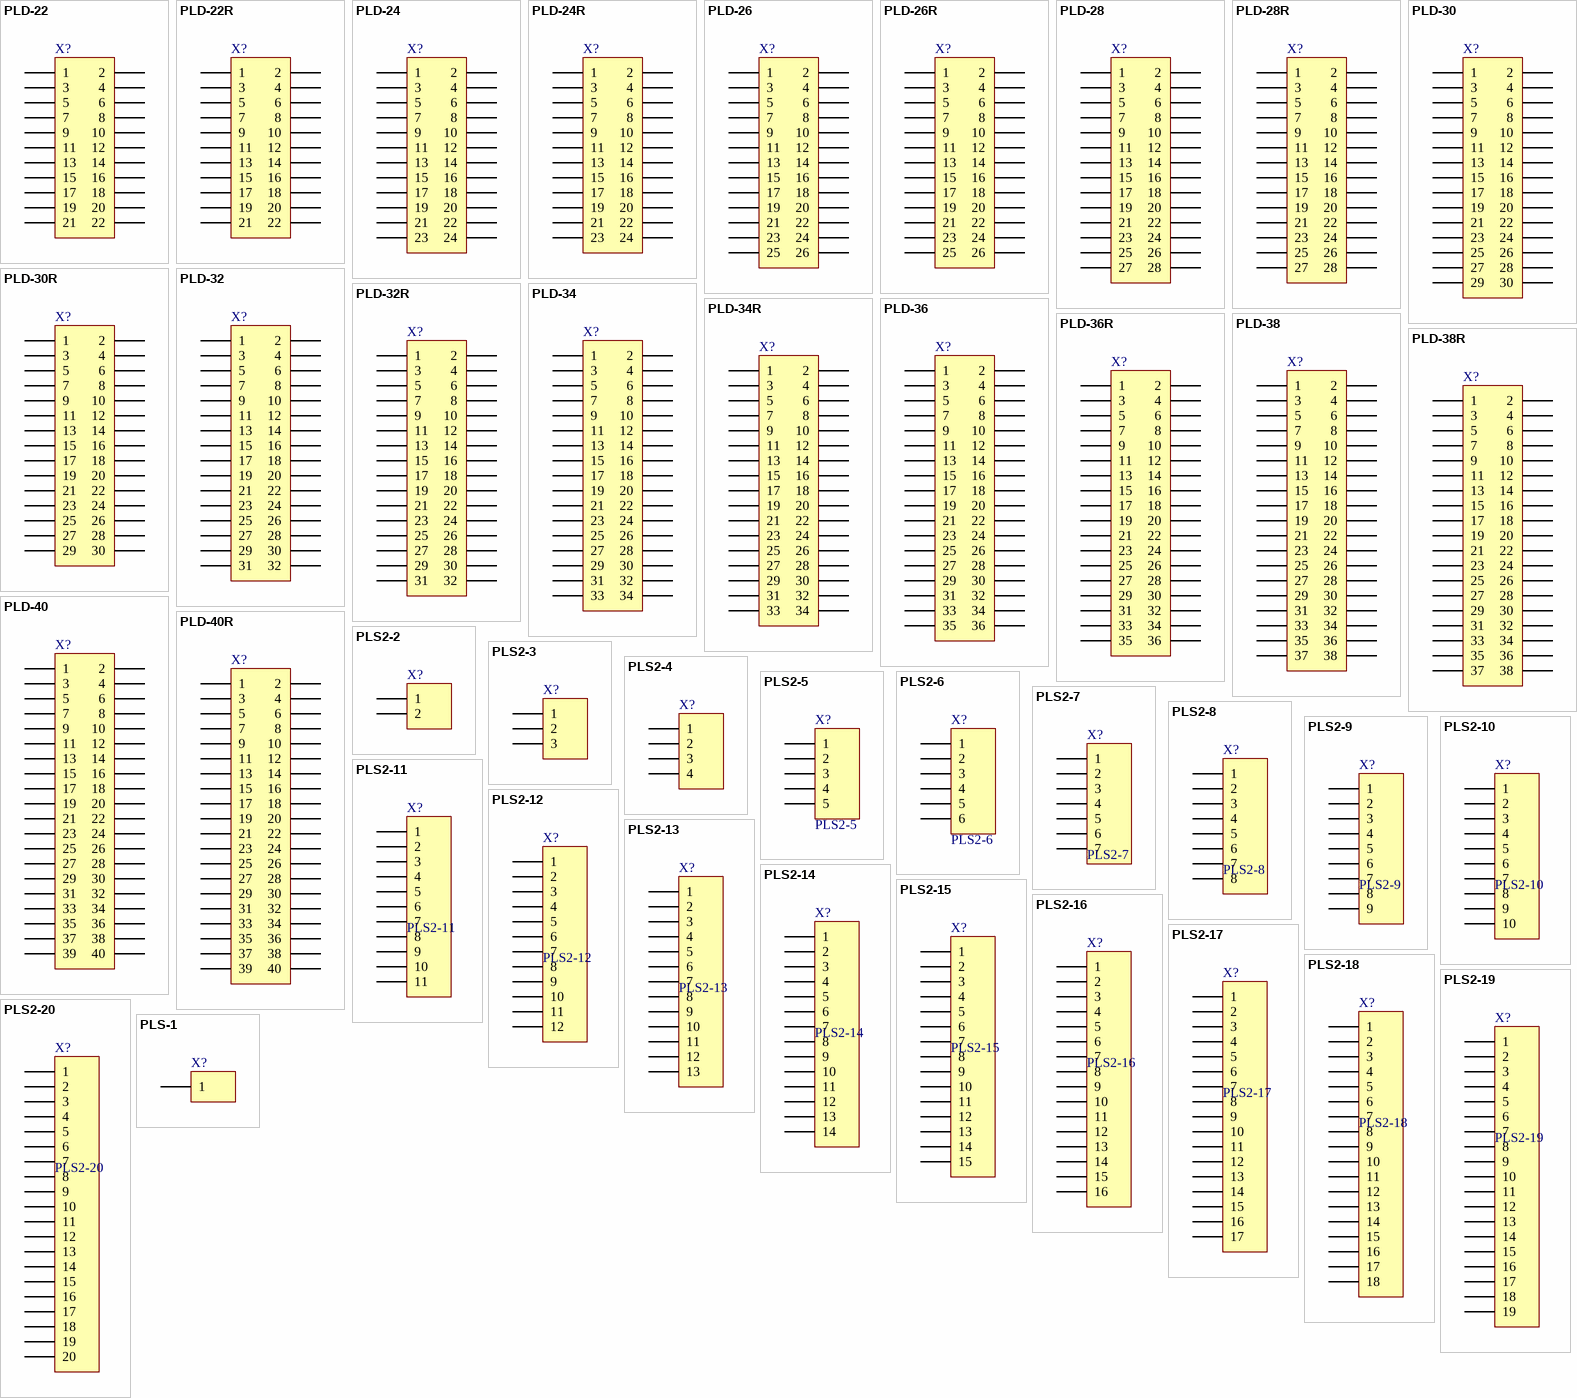
[diagram p3: symbols PLD-22 to PLS-1]

## PLD-22
designator X?  (value not drawn)
Header, 11-Pin, Dual row
footprint PLD-22-3D (Connector; Header; 11x2 Position)
footprint PXD-22 (Connector; Header; 11x2 Position)
pins: 1, 2, 3, 4, 5, 6, 7, 8, 9, 10, 11, 12, 13, 14, 15, 16, 17, 18, 19, 20, 21, 22

## PLD-22R
designator X?  (value not drawn)
Header, 11-Pin, Dual row
footprint PLD-22RR1 (Connector; Header; 11x2 Position)
footprint PLD-22RL1 (Connector; Header; 11x2 Position)
footprint PLD-22RR2 (Connector; Header; 11x2 Position)
footprint PLD-22RL2 (Connector; Header; 11x2 Position)
pins: 1, 2, 3, 4, 5, 6, 7, 8, 9, 10, 11, 12, 13, 14, 15, 16, 17, 18, 19, 20, 21, 22

## PLD-24
designator X?  (value not drawn)
Header, 12-Pin, Dual row
footprint PLD-24-3D (Connector; Header; 12x2 Position)
footprint PXD-24 (Connector; Header; 12x2 Position)
pins: 1, 2, 3, 4, 5, 6, 7, 8, 9, 10, 11, 12, 13, 14, 15, 16, 17, 18, 19, 20, 21, 22, 23, 24

## PLD-24R
designator X?  (value not drawn)
Header, 12-Pin, Dual row
footprint PLD-24RR1 (Connector; Header; 12x2 Position)
footprint PLD-24RL1 (Connector; Header; 12x2 Position)
footprint PLD-24RR2 (Connector; Header; 12x2 Position)
footprint PLD-24RL2 (Connector; Header; 12x2 Position)
pins: 1, 2, 3, 4, 5, 6, 7, 8, 9, 10, 11, 12, 13, 14, 15, 16, 17, 18, 19, 20, 21, 22, 23, 24

## PLD-26
designator X?  (value not drawn)
Header, 13-Pin, Dual row
footprint PLD-26-3D (Connector; Header; 13x2 Position)
footprint PXD-26 (Connector; Header; 13x2 Position)
pins: 1, 2, 3, 4, 5, 6, 7, 8, 9, 10, 11, 12, 13, 14, 15, 16, 17, 18, 19, 20, 21, 22, 23, 24, 25, 26

## PLD-26R
designator X?  (value not drawn)
Header, 13-Pin, Dual row
footprint PLD-26RR1 (Connector; Header; 13x2 Position)
footprint PLD-26RL1 (Connector; Header; 13x2 Position)
footprint PLD-26RR2 (Connector; Header; 13x2 Position)
footprint PLD-26RL2 (Connector; Header; 13x2 Position)
pins: 1, 2, 3, 4, 5, 6, 7, 8, 9, 10, 11, 12, 13, 14, 15, 16, 17, 18, 19, 20, 21, 22, 23, 24, 25, 26

## PLD-28
designator X?  (value not drawn)
Header, 14-Pin, Dual row
footprint PLD-28-3D (Connector; Header; 14x2 Position)
footprint PXD-28 (Connector; Header; 14x2 Position)
pins: 1, 2, 3, 4, 5, 6, 7, 8, 9, 10, 11, 12, 13, 14, 15, 16, 17, 18, 19, 20, 21, 22, 23, 24, 25, 26, 27, 28

## PLD-28R
designator X?  (value not drawn)
Header, 14-Pin, Dual row
footprint PLD-28RR1 (Connector; Header; 14x2 Position)
footprint PLD-28RL1 (Connector; Header; 14x2 Position)
footprint PLD-28RR2 (Connector; Header; 14x2 Position)
footprint PLD-28RL2 (Connector; Header; 14x2 Position)
pins: 1, 2, 3, 4, 5, 6, 7, 8, 9, 10, 11, 12, 13, 14, 15, 16, 17, 18, 19, 20, 21, 22, 23, 24, 25, 26, 27, 28

## PLD-30
designator X?  (value not drawn)
Header, 15-Pin, Dual row
footprint PLD-30-3D (Connector; Header; 15x2 Position)
footprint PXD-30 (Connector; Header; 15x2 Position)
pins: 1, 2, 3, 4, 5, 6, 7, 8, 9, 10, 11, 12, 13, 14, 15, 16, 17, 18, 19, 20, 21, 22, 23, 24, 25, 26, 27, 28, 29, 30

## PLD-30R
designator X?  (value not drawn)
Header, 15-Pin, Dual row
footprint PLD-30RR1 (Connector; Header; 15x2 Position)
footprint PLD-30RL1 (Connector; Header; 15x2 Position)
footprint PLD-30RR2 (Connector; Header; 15x2 Position)
footprint PLD-30Rl2 (Connector; Header; 15x2 Position)
pins: 1, 2, 3, 4, 5, 6, 7, 8, 9, 10, 11, 12, 13, 14, 15, 16, 17, 18, 19, 20, 21, 22, 23, 24, 25, 26, 27, 28, 29, 30

## PLD-32
designator X?  (value not drawn)
Header, 16-Pin, Dual row
footprint PLD-32-3D (Connector; Header; 16x2 Position)
footprint PXD-32 (Connector; Header; 16x2 Position)
pins: 1, 2, 3, 4, 5, 6, 7, 8, 9, 10, 11, 12, 13, 14, 15, 16, 17, 18, 19, 20, 21, 22, 23, 24, 25, 26, 27, 28, 29, 30, 31, 32

## PLD-32R
designator X?  (value not drawn)
Header, 16-Pin, Dual row
footprint PLD-32RR1 (Connector; Header; 16x2 Position)
footprint PLD-32RL1 (Connector; Header; 16x2 Position)
footprint PLD-32RR2 (Connector; Header; 16x2 Position)
footprint PLD-32RL2 (Connector; Header; 16x2 Position)
pins: 1, 2, 3, 4, 5, 6, 7, 8, 9, 10, 11, 12, 13, 14, 15, 16, 17, 18, 19, 20, 21, 22, 23, 24, 25, 26, 27, 28, 29, 30, 31, 32

## PLD-34
designator X?  (value not drawn)
Header, 17-Pin, Dual row
footprint PLD-34-3D (Connector; Header; 17x2 Position)
footprint PXD-34 (Connector; Header; 17x2 Position)
pins: 1, 2, 3, 4, 5, 6, 7, 8, 9, 10, 11, 12, 13, 14, 15, 16, 17, 18, 19, 20, 21, 22, 23, 24, 25, 26, 27, 28, 29, 30, 31, 32, 33, 34

## PLD-34R
designator X?  (value not drawn)
Header, 17-Pin, Dual row
footprint PLD-34RR1 (Connector; Header; 17x2 Position)
footprint PLD-34RL1 (Connector; Header; 17x2 Position)
footprint PLD-34RR2 (Connector; Header; 17x2 Position)
footprint PLD-34RL2 (Connector; Header; 17x2 Position)
pins: 1, 2, 3, 4, 5, 6, 7, 8, 9, 10, 11, 12, 13, 14, 15, 16, 17, 18, 19, 20, 21, 22, 23, 24, 25, 26, 27, 28, 29, 30, 31, 32, 33, 34

## PLD-36
designator X?  (value not drawn)
Header, 18-Pin, Dual row
footprint PLD-36-3D (Connector; Header; 18x2 Position)
footprint PXD-36 (Connector; Header; 18x2 Position)
pins: 1, 2, 3, 4, 5, 6, 7, 8, 9, 10, 11, 12, 13, 14, 15, 16, 17, 18, 19, 20, 21, 22, 23, 24, 25, 26, 27, 28, 29, 30, 31, 32, 33, 34, 35, 36

## PLD-36R
designator X?  (value not drawn)
Header, 18-Pin, Dual row
footprint PLD-36RR1 (Connector; Header; 18x2 Position)
footprint PLD-36RL1 (Connector; Header; 18x2 Position)
footprint PLD-36RR2 (Connector; Header; 18x2 Position)
footprint PLD-36RL2 (Connector; Header; 18x2 Position)
pins: 1, 2, 3, 4, 5, 6, 7, 8, 9, 10, 11, 12, 13, 14, 15, 16, 17, 18, 19, 20, 21, 22, 23, 24, 25, 26, 27, 28, 29, 30, 31, 32, 33, 34, 35, 36

## PLD-38
designator X?  (value not drawn)
Header, 19-Pin, Dual row
footprint PLD-38-3D (Connector; Header; 19x2 Position)
footprint PXD-38 (Connector; Header; 19x2 Position)
pins: 1, 2, 3, 4, 5, 6, 7, 8, 9, 10, 11, 12, 13, 14, 15, 16, 17, 18, 19, 20, 21, 22, 23, 24, 25, 26, 27, 28, 29, 30, 31, 32, 33, 34, 35, 36, 37, 38

## PLD-38R
designator X?  (value not drawn)
Header, 19-Pin, Dual row
footprint PLD-38RR1 (Connector; Header; 19x2 Position)
footprint PLD-38RL1 (Connector; Header; 19x2 Position)
footprint PLD-38RR2 (Connector; Header; 19x2 Position)
footprint PLD-38RL2 (Connector; Header; 19x2 Position)
pins: 1, 2, 3, 4, 5, 6, 7, 8, 9, 10, 11, 12, 13, 14, 15, 16, 17, 18, 19, 20, 21, 22, 23, 24, 25, 26, 27, 28, 29, 30, 31, 32, 33, 34, 35, 36, 37, 38

## PLD-40
designator X?  (value not drawn)
Header, 20-Pin, Dual row
footprint PLD-40-3D (Connector; Header; 20x2 Position)
footprint PXD-40 (Connector; Header; 20x2 Position)
pins: 1, 2, 3, 4, 5, 6, 7, 8, 9, 10, 11, 12, 13, 14, 15, 16, 17, 18, 19, 20, 21, 22, 23, 24, 25, 26, 27, 28, 29, 30, 31, 32, 33, 34, 35, 36, 37, 38, 39, 40

## PLD-40R
designator X?  (value not drawn)
Header, 20-Pin, Dual row
footprint PLD-40RR1 (Connector; Header; 20x2 Position)
footprint PLD-40RL1 (Connector; Header; 20x2 Position)
footprint PLD-40RR2 (Connector; Header; 20x2 Position)
footprint PLD-40RL2 (Connector; Header; 20x2 Position)
pins: 1, 2, 3, 4, 5, 6, 7, 8, 9, 10, 11, 12, 13, 14, 15, 16, 17, 18, 19, 20, 21, 22, 23, 24, 25, 26, 27, 28, 29, 30, 31, 32, 33, 34, 35, 36, 37, 38, 39, 40

## PLS2-2
designator X?  (value not drawn)
Header, 2-Pin
footprint PLS-2-2 (Connector; Header; 1x2 Position)
pins: 1, 2

## PLS2-3
designator X?  (value not drawn)
Header, 3-Pin
footprint PLS-3-2 (Connector; Header; 1x3 Position)
pins: 1, 2, 3

## PLS2-4
designator X?  (value not drawn)
Header, 4-Pin
footprint PLS-4-2 (Connector; Header; 1x4 Position)
pins: 1, 2, 3, 4

## PLS2-5
designator X?
Header, 5-Pin
footprint PLS-5-2 (Connector; Header; 1x5 Position)
pins: 1, 2, 3, 4, 5

## PLS2-6
designator X?
Header, 6-Pin
footprint PLS-6-2 (Connector; Header; 1x6 Position)
pins: 1, 2, 3, 4, 5, 6

## PLS2-7
designator X?
Header, 7-Pin
footprint PLS-7-2 (Connector; Header; 1x7 Position)
pins: 1, 2, 3, 4, 5, 6, 7

## PLS2-8
designator X?
Header, 8-Pin
footprint PLS-8-2 (Connector; Header; 1x8 Position)
pins: 1, 2, 3, 4, 5, 6, 7, 8

## PLS2-9
designator X?
Header, 9-Pin
footprint PLS-9-2 (Connector; Header; 1x9 Position)
pins: 1, 2, 3, 4, 5, 6, 7, 8, 9

## PLS2-10
designator X?
Header, 10-Pin
footprint PLS-10-2 (Connector; Header; 1x10 Position)
pins: 1, 2, 3, 4, 5, 6, 7, 8, 9, 10

## PLS2-11
designator X?
Header, 11-Pin
footprint PLS-11-2 (Connector; Header; 1x11 Position)
pins: 1, 2, 3, 4, 5, 6, 7, 8, 9, 10, 11

## PLS2-12
designator X?
Header, 12-Pin
footprint PLS-12-2 (Connector; Header; 1x12 Position)
pins: 1, 2, 3, 4, 5, 6, 7, 8, 9, 10, 11, 12

## PLS2-13
designator X?
Header, 13-Pin
footprint PLS-13-2 (Connector; Header; 1x13 Position)
pins: 1, 2, 3, 4, 5, 6, 7, 8, 9, 10, 11, 12, 13

## PLS2-14
designator X?
Header, 14-Pin
footprint PLS-14-2 (Connector; Header; 1x14 Position)
pins: 1, 2, 3, 4, 5, 6, 7, 8, 9, 10, 11, 12, 13, 14

## PLS2-15
designator X?
Header, 15-Pin
footprint PLS-15-2 (Connector; Header; 1x15 Position)
pins: 1, 2, 3, 4, 5, 6, 7, 8, 9, 10, 11, 12, 13, 14, 15

## PLS2-16
designator X?
Header, 16-Pin
footprint PLS-16-2 (Connector; Header; 1x16 Position)
pins: 1, 2, 3, 4, 5, 6, 7, 8, 9, 10, 11, 12, 13, 14, 15, 16

## PLS2-17
designator X?
Header, 17-Pin
footprint PLS-17-2 (Connector; Header; 1x17 Position)
pins: 1, 2, 3, 4, 5, 6, 7, 8, 9, 10, 11, 12, 13, 14, 15, 16, 17

## PLS2-18
designator X?
Header, 18-Pin
footprint PLS-18-2 (Connector; Header; 1x18 Position)
pins: 1, 2, 3, 4, 5, 6, 7, 8, 9, 10, 11, 12, 13, 14, 15, 16, 17, 18

## PLS2-19
designator X?
Header, 19-Pin
footprint PLS-19-2 (Connector; Header; 1x19 Position)
pins: 1, 2, 3, 4, 5, 6, 7, 8, 9, 10, 11, 12, 13, 14, 15, 16, 17, 18, 19

## PLS2-20
designator X?
Header, 20-Pin
footprint PLS-20-2 (Connector; Header; 1x20 Position)
pins: 1, 2, 3, 4, 5, 6, 7, 8, 9, 10, 11, 12, 13, 14, 15, 16, 17, 18, 19, 20

## PLS-1
designator X?  (value not drawn)
Header, 1-Pin
footprint PXS-1 (Connector; Header; 1 Position)
footprint PLS-1-3D (Connector; Header; 1 Position)
pins: 1

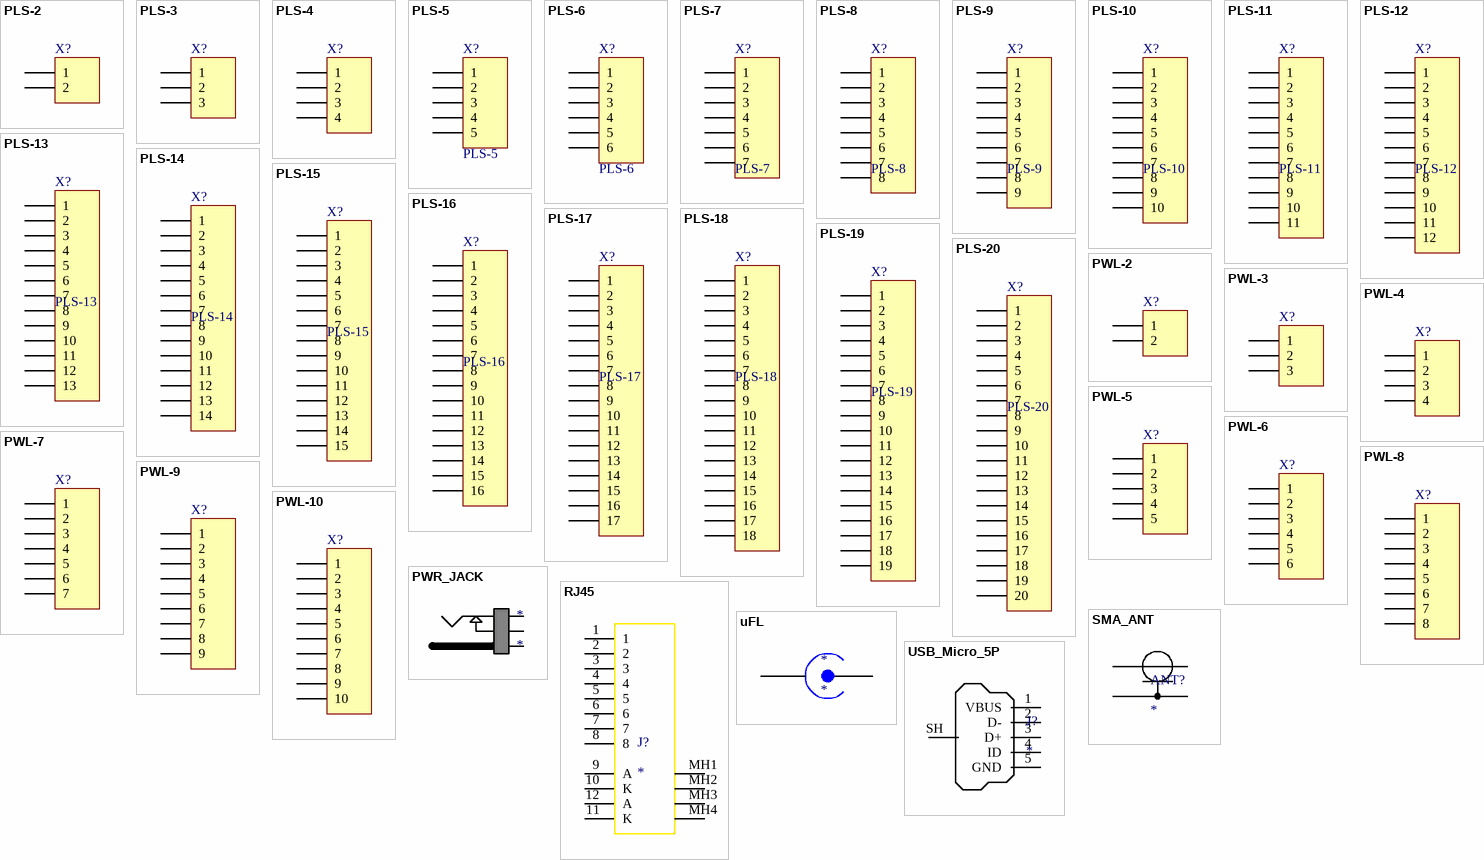
[diagram p4: symbols PLS-2 to USB_Micro_5P]

## PLS-2
designator X?  (value not drawn)
Header, 2-Pin
footprint PLS-2-3D (Connector; Header; 2 Position)
footprint PXS-2 (Connector; Header; 2 Position)
pins: 1, 2

## PLS-3
designator X?  (value not drawn)
Header, 3-Pin
footprint PLS-3-3D (Connector; Header; 3 Position)
footprint PXS-3 (Connector; Header; 3 Position)
pins: 1, 2, 3

## PLS-4
designator X?  (value not drawn)
Header, 4-Pin
footprint PLS-4-3D (Connector; Header; 4 Position)
footprint PXS-4 (Connector; Header; 4 Position)
footprint PLS-4RL-3D (Connector; Header; 4 Position; Right Angle)
pins: 1, 2, 3, 4

## PLS-5
designator X?
Header, 5-Pin
footprint PLS-5-3D (Connector; Header; 5 Position)
footprint PXS-5 (Connector; Header; 5 Position)
pins: 1, 2, 3, 4, 5

## PLS-6
designator X?
Header, 6-Pin
footprint PXS-6 (Connector; Header; 6 Position)
footprint PLS-6-3D (Connector; Header; 4 Position)
pins: 1, 2, 3, 4, 5, 6

## PLS-7
designator X?
Header, 7-Pin
footprint PXS-7 (Connector; Header; 7 Position)
footprint PLS-7-3D (Connector; Header; 7 Position)
pins: 1, 2, 3, 4, 5, 6, 7

## PLS-8
designator X?
Header, 8-Pin
footprint PXS-8 (Connector; Header; 8 Position)
footprint PLS-8-3D (Connector; Header; 8 Position)
pins: 1, 2, 3, 4, 5, 6, 7, 8

## PLS-9
designator X?
Header, 9-Pin
footprint PXS-9 (Connector; Header; 9 Position)
footprint PLS-9-3D (Connector; Header; 9 Position)
pins: 1, 2, 3, 4, 5, 6, 7, 8, 9

## PLS-10
designator X?
Header, 10-Pin
footprint PXS-10 (Connector; Header; 10 Position)
footprint PLS-10-3D (Connector; Header; 10 Position)
pins: 1, 2, 3, 4, 5, 6, 7, 8, 9, 10

## PLS-11
designator X?
Header, 11-Pin
footprint PXS-11 (Connector; Header; 11 Position)
footprint PLS-11-3D (Connector; Header; 11 Position)
pins: 1, 2, 3, 4, 5, 6, 7, 8, 9, 10, 11

## PLS-12
designator X?
Header, 12-Pin
footprint PXS-12 (Connector; Header; 12 Position)
footprint PLS-12-3D (Connector; Header; 12 Position)
pins: 1, 2, 3, 4, 5, 6, 7, 8, 9, 10, 11, 12

## PLS-13
designator X?
Header, 13-Pin
footprint PXS-13 (Connector; Header; 13 Position)
footprint PLS-13-3D (Connector; Header; 13 Position)
pins: 1, 2, 3, 4, 5, 6, 7, 8, 9, 10, 11, 12, 13

## PLS-14
designator X?
Header, 14-Pin
footprint PXS-14 (Connector; Header; 14 Position)
footprint PLS-14-3D (Connector; Header; 14 Position)
pins: 1, 2, 3, 4, 5, 6, 7, 8, 9, 10, 11, 12, 13, 14

## PLS-15
designator X?
Header, 15-Pin
footprint PXS-15 (Connector; Header; 15 Position)
footprint PLS-15-3D (Connector; Header; 15 Position)
pins: 1, 2, 3, 4, 5, 6, 7, 8, 9, 10, 11, 12, 13, 14, 15

## PLS-16
designator X?
Header, 16-Pin
footprint PXS-16 (Connector; Header; 16 Position)
footprint PLS-16-3D (Connector; Header; 16 Position)
pins: 1, 2, 3, 4, 5, 6, 7, 8, 9, 10, 11, 12, 13, 14, 15, 16

## PLS-17
designator X?
Header, 17-Pin
footprint PXS-17 (Connector; Header; 17 Position)
footprint PLS-17-3D (Connector; Header; 17 Position)
pins: 1, 2, 3, 4, 5, 6, 7, 8, 9, 10, 11, 12, 13, 14, 15, 16, 17

## PLS-18
designator X?
Header, 18-Pin
footprint PXS-18 (Connector; Header; 18 Position)
footprint PLS-18-3D (Connector; Header; 18 Position)
pins: 1, 2, 3, 4, 5, 6, 7, 8, 9, 10, 11, 12, 13, 14, 15, 16, 17, 18

## PLS-19
designator X?
Header, 19-Pin
footprint PXS-19 (Connector; Header; 19 Position)
footprint PLS-19-3D (Connector; Header; 19 Position)
pins: 1, 2, 3, 4, 5, 6, 7, 8, 9, 10, 11, 12, 13, 14, 15, 16, 17, 18, 19

## PLS-20
designator X?
Header, 20-Pin
footprint PXS-20 (Connector; Header; 20 Position)
footprint PLS-20-3D (Connector; Header; 20 Position)
pins: 1, 2, 3, 4, 5, 6, 7, 8, 9, 10, 11, 12, 13, 14, 15, 16, 17, 18, 19, 20

## PWL-2
designator X?  (value not drawn)
Header, 2-Pin
footprint PWL-2 (Connector; Header; 2 Position)
pins: 1, 2

## PWL-3
designator X?  (value not drawn)
Header, 3-Pin
footprint PWL-3 (Connector; Header; 3 Position)
pins: 1, 2, 3

## PWL-4
designator X?  (value not drawn)
Header, 4-Pin
footprint PWL-4 (Connector; Header; 4 Position)
pins: 1, 2, 3, 4

## PWL-5
designator X?  (value not drawn)
Header, 5-Pin
footprint PWL-5 (Connector; Header; 5 Position)
pins: 1, 2, 3, 4, 5

## PWL-6
designator X?  (value not drawn)
Header, 6-Pin
footprint PWL-6 (Connector; Header; 6 Position)
pins: 1, 2, 3, 4, 5, 6

## PWL-7
designator X?  (value not drawn)
Header, 7-Pin
footprint PWL-7 (Connector; Header; 7 Position)
pins: 1, 2, 3, 4, 5, 6, 7

## PWL-8
designator X?  (value not drawn)
Header, 8-Pin
footprint PWL-8 (Connector; Header; 8 Position)
pins: 1, 2, 3, 4, 5, 6, 7, 8

## PWL-9
designator X?  (value not drawn)
Header, 9-Pin
footprint PWL-9 (Connector; Header; 9 Position)
pins: 1, 2, 3, 4, 5, 6, 7, 8, 9

## PWL-10
designator X?  (value not drawn)
Header, 10-Pin
footprint PWL-10 (Connector; Header; 10 Position)
pins: 1, 2, 3, 4, 5, 6, 7, 8, 9, 10

## PWR_JACK
designator *
footprint PWR_JACK
pins: 1, 2, 3

## RJ45
designator J?
RJ45 Jack
footprint RJ45
pins: 1, 2, 3, 4, 5, 6, 7, 8, 9 A, 10 K, 11 K, 12 A, MH1, MH2, MH3, MH4

## SMA_ANT
designator ANT?
footprint SMA
pins: 1 a, 2 g

## uFL
designator *
footprint uFL
pins: 1, 2

## USB_Micro_5P
designator J?
footprint USB_MICRO_AB (Tom mount usb SD-47590-001)
pins: 1 VBUS, 2 D-, 3 D+, 4 ID, 5 GND, SH